# Altium schematic symbol library MAL214699103E3.SchLib: 1 symbol
Pins are listed as number, name and electrical type; pins without a type are passive.

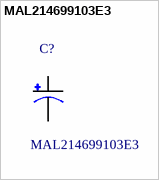
[diagram p0: symbol MAL214699103E3]

## MAL214699103E3
designator C?
100ÂµF 50V Aluminum Electrolytic Capacitors Radial, Can - SMD 1500 Hrs @ 125Â°C; MF: Vishay BC; Digi-Key_Purchase_URL: https://www.digikey.com/product-detail/en/vishay-bc-components/MAL214699103E3/4437PHCT-ND/2410460?utm_source=snapeda&utm_medium=aggregator&utm_campaign=symbol; Package: Radial Vishay BC; MP: MAL214699103E3; SnapEDA_Link: https://www.snapeda.com/parts/MAL214699103E3/Vishay%20BC%20Components/view-part/285948/?ref=snap; Digi-Key_Part_Number: 4437PHCT-ND; Value: *
footprint *CAPAE1050X1050N
pins: 1 POS, 2 NEG